# EAGLE library part BQ25790 (library DSDEagleLibrary)
The BQ25790 is a fully integrated switch-mode buckboost charger for 1-4 cell Li-ion battery and Lipolymer battery. The integration includes 4 switching MOSFETs (Q1 , Q2 , Q3 , Q4 ), input and charging current sensing circuits, the battery FET (QBAT) and all the loop compensation of the buck-boost converter. It provides high power density and design flexibility to charge batteries across the full input voltage range for USB Type-C™ and USB power delivery (USB-PD) applications such as smart phone, tablet and other portable devices.
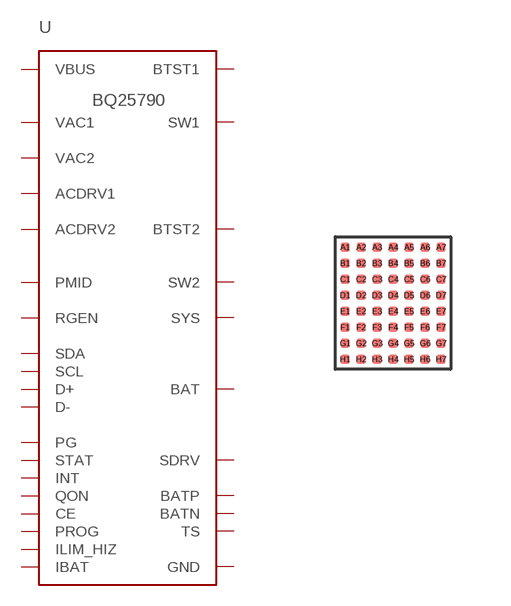
[diagram p70: symbol with the pads of YBG_DSBGA56; footprint YBG_DSBGA56]

Designator prefix -

## BQ25790  [YBG_DSBGA56]
A1  VBUS
A2  PMID
A3  SW1
A4  GND
A5  SW2
A6  SYS
A7  BAT
B1  VBUS
B2  PMID
B3  SW1
B4  GND
B5  SW2
B6  SYS
B7  BAT
C1  VBUS
C2  PMID
C3  SW1
C4  GND
C5  SW2
C6  SYS
C7  BAT
D1  BTST1
D2  PMID
D3  SW1
D4  GND
D5  SW2
D6  SYS
D7  BAT
E1  RGEN
E2  PMID
E3  SW1
E4  GND
E5  SW2
E6  SYS
E7  BAT
F1  STAT
F2  D+
F3  D-
F4  ILIM_HIZ
F5  PROG
F6  SDRV
F7  BTST2
G1  VAC2
G2  ACDRV2
G3  QON
G4  CE
G5  INT
G6  BATN
G7  BATP
H1  VAC1
H2  ACDRV1
H3  PG
H4  SCL
H5  SDA
H6  IBAT
H7  TS

## Footprint YBG_DSBGA56 (pad centres in mm)
smd 0.23 x 0.23: A1 0,0; A2 0.4,0; A3 0.8,0; A4 1.2,0; A5 1.6,0; A6 2,0; A7 2.4,0; B1 0,-0.4; B2 0.4,-0.4; B3 0.8,-0.4; B4 1.2,-0.4; B5 1.6,-0.4; B6 2,-0.4; B7 2.4,-0.4; C1 0,-0.8; C2 0.4,-0.8; C3 0.8,-0.8; C4 1.2,-0.8; C5 1.6,-0.8; C6 2,-0.8; C7 2.4,-0.8; D1 0,-1.2; D2 0.4,-1.2; D3 0.8,-1.2; D4 1.2,-1.2; D5 1.6,-1.2; D6 2,-1.2; D7 2.4,-1.2; E1 0,-1.6; E2 0.4,-1.6; E3 0.8,-1.6; E4 1.2,-1.6; E5 1.6,-1.6; E6 2,-1.6; E7 2.4,-1.6; F1 0,-2; F2 0.4,-2; F3 0.8,-2; F4 1.2,-2; F5 1.6,-2; F6 2,-2; F7 2.4,-2; G1 0,-2.4; G2 0.4,-2.4; G3 0.8,-2.4; G4 1.2,-2.4; G5 1.6,-2.4; G6 2,-2.4; G7 2.4,-2.4; H1 0,-2.8; H2 0.4,-2.8; H3 0.8,-2.8; H4 1.2,-2.8; H5 1.6,-2.8; H6 2,-2.8; H7 2.4,-2.8